# Altium footprint library 3092_Coin_Cell_Retainer.PcbLib: 1 footprints
Each footprint in its own frame and in the unit in brackets; x right, y up, seen from the top. Pads: shape width x height; smd on the part's side, far side on the other; paste and mask are expansions set on the pad; w line width, h text height; cw(c..) or ccw(c..) is an arc to the next point about the centre after c.
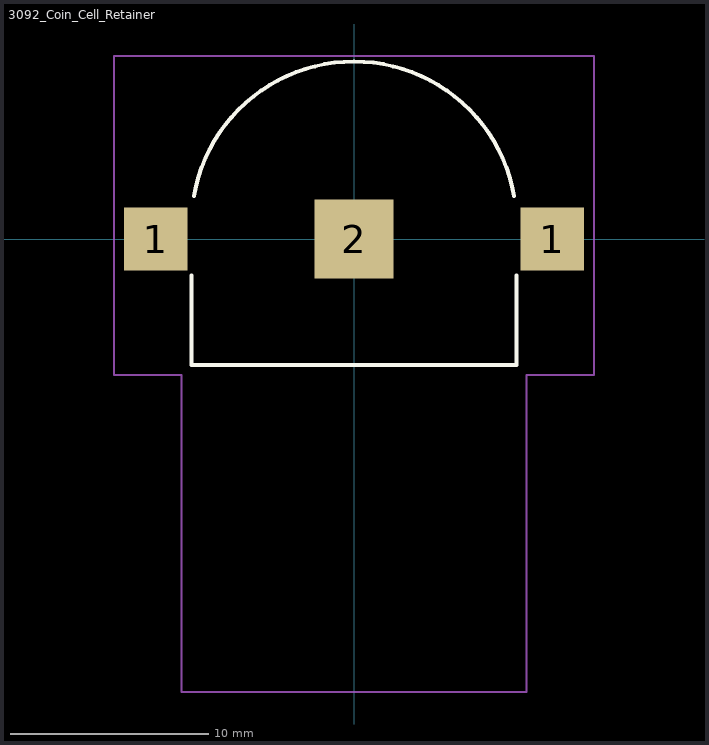
[diagram p0: the footprint, top view; thin cyan lines are the x and y axes]

## 3092_Coin_Cell_Retainer [mm]
pads (3):
  rect 3.2x3.2 smd: 1(-10,0) 1(10,0)
  rect 4x4 smd paste-4: 2(0,0)
Top Overlay:
  lines w0.2: -8.2,-1.85 -8.2,-6.35 8.2,-6.35 8.2,-1.85 ; -8.075,2.174 cw(c0,0.75) 8.075,2.174
Top Courtyard:
  lines w0.1: -12.1,-1.6 -12.1,-6.85 ; -11.275,-6.85 -12.1,-6.85 ; -8.7,-22.35 -8.7,-6.85 ; 10.915,9.237 11.85,9.237 ; -12.1,-6.85 -8.7,-6.85 ; -12.1,-6.85 -12.1,9.237 12.1,9.237 12.1,-6.85 8.7,-6.85 8.7,-22.85 -8.7,-22.85 -8.7,-6.85
3D body "3092--3DModel-STEP-630548.STEP": height 4, standoff 0.04, extent -11.354,-6.35 11.354,8.738